# EAGLE library part 662014231722 (library Wurth_Elektronik_Electromechanic_Wire_to_Board_Connectors_rev16a)
WR-MPC3 3.00mm Male Dual Row SMT Angled Header SMT Fitting Nail Clip, 14 Pins=>Code : Con_WTB_MPC3_2_PCB_SMT_662014231722 <http://katalog.we-online.de/media/thumbs2/eican/thb_Con_WTB_MPC3_2_PCB_SMT_6620xx231722_pf2.jpg> Details see: http://katalog.we-online.de/en/em/662_0xx_231_722 Created 2014-06-06, Karrer Zheng 2014 (C) Würth Elektronik
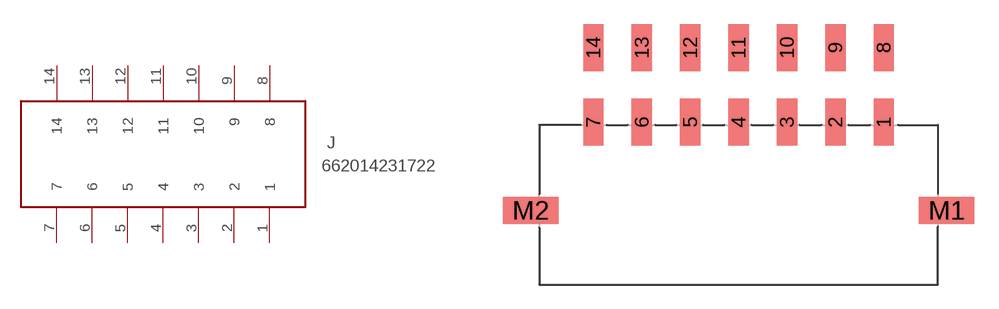
[diagram p370: symbol with the pads of 662014231722; footprint 662014231722]

Designator prefix J

## 662014231722  [662014231722]
1  1
2  2
3  3
4  4
5  5
6  6
7  7
8  8
9  9
10  10
11  11
12  12
13  13
14  14

## Footprint 662014231722 (pad centres in mm)
WR-MPC3 3.00mm Male Dual Row SMT Angled Header SMT Fitting Nail Clip, 14 Pins
smd 1.27 x 2.92: 1 9,5.48; 2 6,5.48; 3 3,5.48; 4 0,5.48; 5 -3,5.48; 6 -6,5.48; 7 -9,5.48; 8 9,10.1; 9 6,10.1; 10 3,10.1; 11 0,10.1; 12 -3,10.1; 13 -6,10.1; 14 -9,10.1
smd 3.43 x 1.65: M1 12.895,0; M2 -12.895,0